# EAGLE library part 2X10JTAG (library KW2)
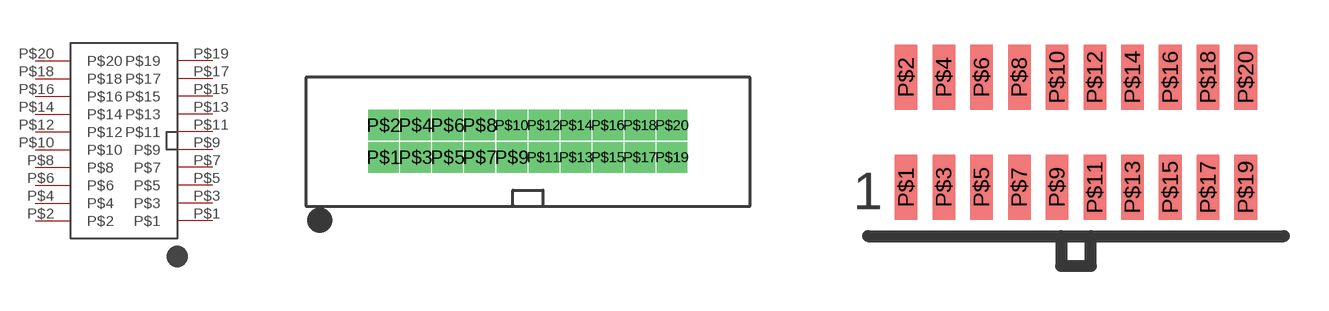
[diagram p8: symbol with the pads of 2X10JTAG; footprints 2X10JTAG, 2X10JTAG-SMD]

Designator prefix -

## 2X10JTAG  [2X10JTAG]
P$1  P$1
P$2  P$2
P$3  P$3
P$4  P$4
P$5  P$5
P$6  P$6
P$7  P$7
P$8  P$8
P$9  P$9
P$10  P$10
P$11  P$11
P$12  P$12
P$13  P$13
P$14  P$14
P$15  P$15
P$16  P$16
P$17  P$17
P$18  P$18
P$19  P$19
P$20  P$20

## 2X10JTAGSMD  [2X10JTAG-SMD]
Pads as for 2X10JTAG

## Footprint 2X10JTAG (pad centres in mm)
drill 0.7 pad 1 square: P$1 -6.35,-1.27; P$2 -6.35,0; P$3 -5.08,-1.27; P$4 -5.08,0; P$5 -3.81,-1.27; P$6 -3.81,0; P$7 -2.54,-1.27; P$8 -2.54,0; P$9 -1.27,-1.27; P$10 -1.27,0; P$11 0,-1.27; P$12 0,0; P$13 1.27,-1.27; P$14 1.27,0; P$15 2.54,-1.27; P$16 2.54,0; P$17 3.81,-1.27; P$18 3.81,0; P$19 5.08,-1.27; P$20 5.08,0

## Footprint 2X10JTAG-SMD (pad centres in mm)
smd 0.76 x 2.2: P$1 -5.715,-1.85; P$2 -5.715,1.85; P$3 -4.445,-1.85; P$4 -4.445,1.85; P$5 -3.175,-1.85; P$6 -3.175,1.85; P$7 -1.905,-1.85; P$8 -1.905,1.85; P$9 -0.635,-1.85; P$10 -0.635,1.85; P$11 0.635,-1.85; P$12 0.635,1.85; P$13 1.905,-1.85; P$14 1.905,1.85; P$15 3.175,-1.85; P$16 3.175,1.85; P$17 4.445,-1.85; P$18 4.445,1.85; P$19 5.715,-1.85; P$20 5.715,1.85